# Altium integrated library Maxim Universal Active Filter.IntLib: 24 symbols
Pins are listed as number, name and electrical type; pins without a type are passive.

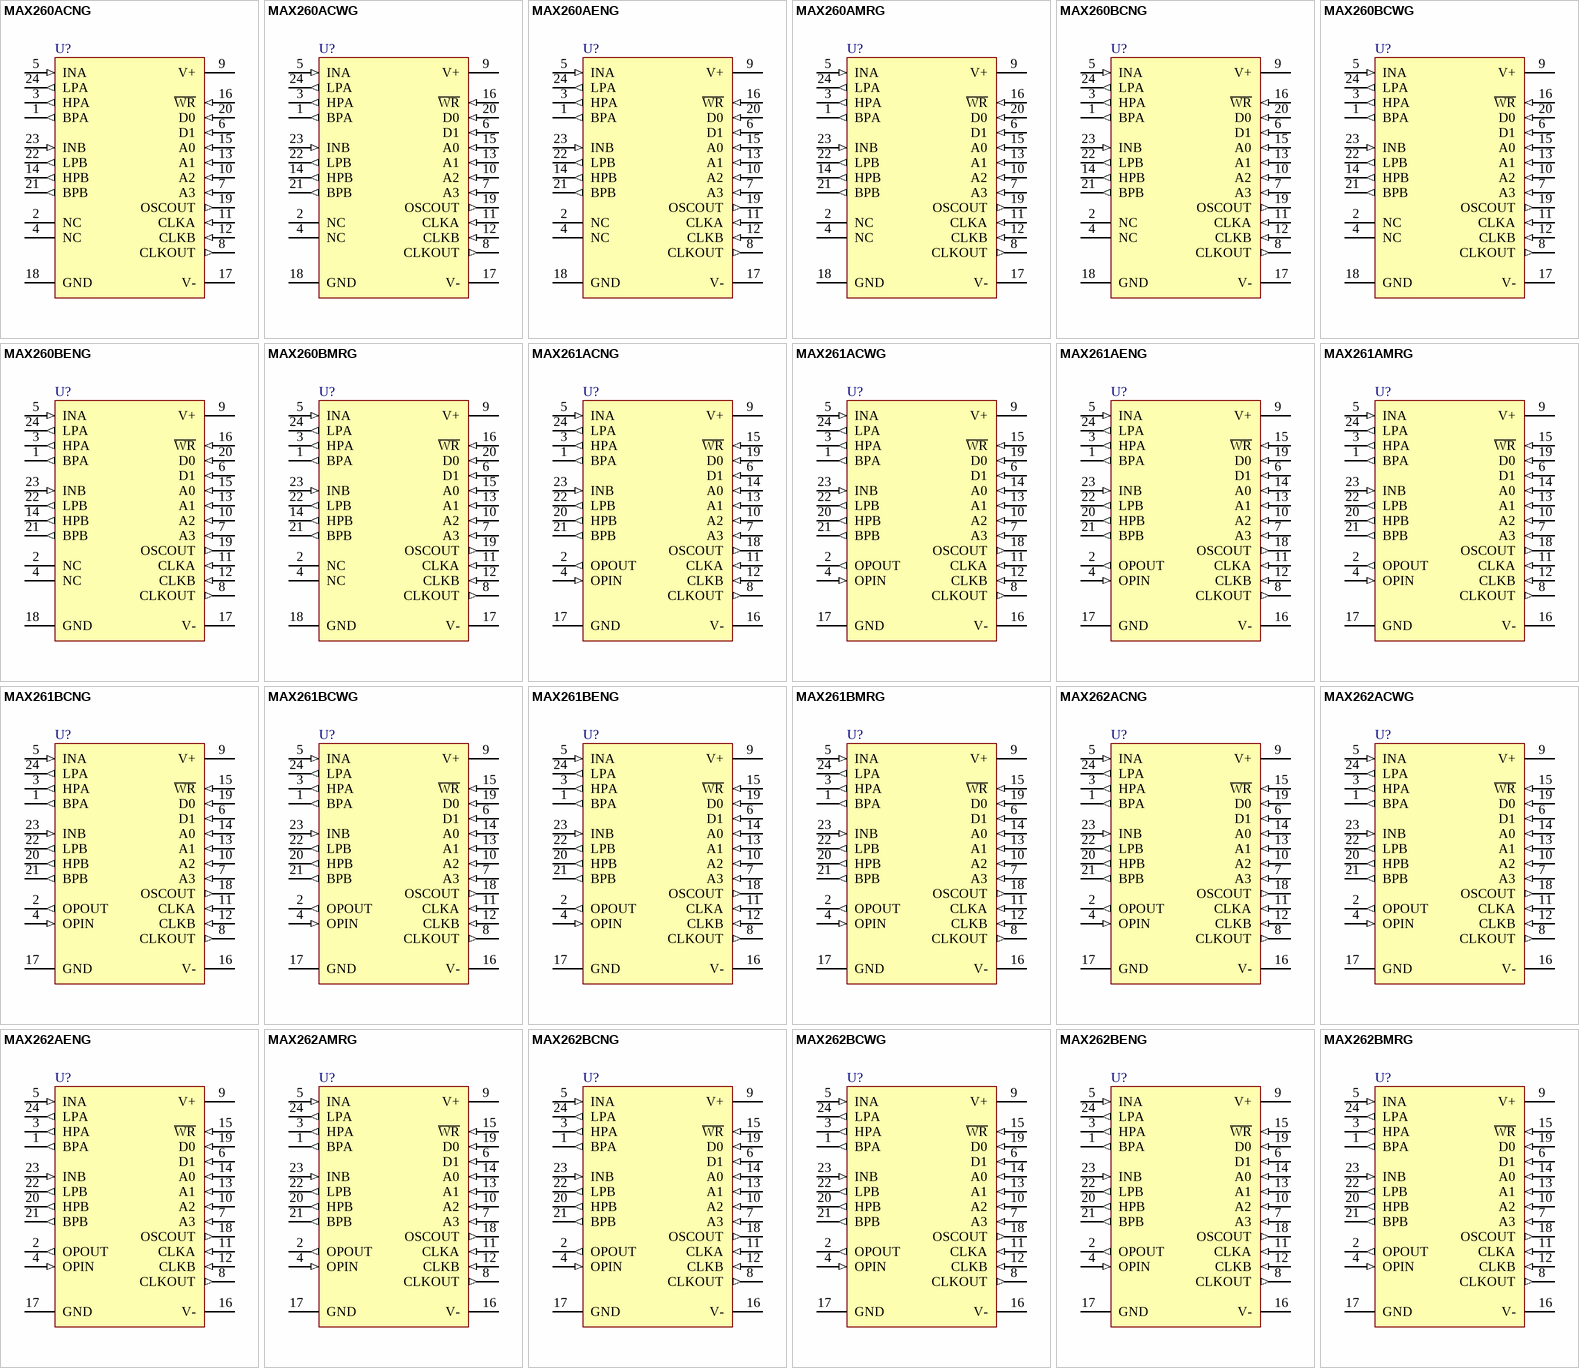
[diagram p0: symbols MAX260ACNG to MAX262BMRG]

## MAX260ACNG
designator U?
Microprocessor Programmable Universal Active Filter; Published: 16-Jan-2001; LatestRevisionDate: 29-May-2009; LatestRevisionNote: Component Body Added.; PackageVersion: Aug-2000; PackageReference: NG24; Publisher: Altium Limited; PackageDescription: DIP, 24-Pin, Row Spacing 7.62 mm, Pitch 2.54 mm; Code_JEDEC: MS-001-AF; ComponentLink1Description: Manufacturer Link; ComponentLink1URL: http://www.maxim-ic.com/; ComponentLink2Description: Datasheet; ComponentLink2URL: http://pdfserv.maxim-ic.com/en/ds/MAX260-MAX262.pdf
footprint NG24 (DIP, 24-Leads, Row Spacing 7.62mm, Pitch 2.54mm, Body 30.55x7.24mm)
3D model NG24 (DIP, 24-Pin, Row Spacing 7.62 mm, Pitch 2.54 mm)
pins: 1 BPA (out), 2 NC, 3 HPA (out), 4 NC, 5 INA (in), 6 D1 (in), 7 A3 (in), 8 CLKOUT (out), 9 V+ (power), 10 A2 (in), 11 CLKA (in), 12 CLKB (in), 13 A1 (in), 14 HPB (out), 15 A0 (in), 16 ~{WR} (in), 17 V- (power), 18 GND (power), 19 OSCOUT (out), 20 D0 (in), 21 BPB (out), 22 LPB (out), 23 INB (in), 24 LPA (out)

## MAX260ACWG
designator U?
Microprocessor Programmable Universal Active Filter; Published: 16-Jan-2001; LatestRevisionDate: 13-Apr-2006; LatestRevisionNote: IPC-7351 Footprint Added.; PackageReference: WSO24; Publisher: Altium Limited; PackageDescription: 24-Pin Small Outline Integrated Circuit 1.27 mm Pitch; ComponentLink1Description: Manufacturer Link; ComponentLink1URL: http://www.maxim-ic.com/; ComponentLink2Description: Datasheet; ComponentLink2URL: http://pdfserv.maxim-ic.com/en/ds/MAX260-MAX262.pdf
footprint WSO24_N (SOIC, 24-Leads, Body 15.4x7.5mm, Pitch 1.27mm, IPC Medium Density)
footprint WSO24_L (SOIC, 24-Leads, Body 15.4x7.5mm, Pitch 1.27mm, IPC High Density)
footprint WSO24_M (SOIC, 24-Leads, Body 15.4x7.5mm, Pitch 1.27mm, IPC Low Density)
3D model WSO24 (24-Pin Small Outline Integrated Circuit 1.27 mm Pitch)
pins: 1 BPA (out), 2 NC, 3 HPA (out), 4 NC, 5 INA (in), 6 D1 (in), 7 A3 (in), 8 CLKOUT (out), 9 V+ (power), 10 A2 (in), 11 CLKA (in), 12 CLKB (in), 13 A1 (in), 14 HPB (out), 15 A0 (in), 16 ~{WR} (in), 17 V- (power), 18 GND (power), 19 OSCOUT (out), 20 D0 (in), 21 BPB (out), 22 LPB (out), 23 INB (in), 24 LPA (out)

## MAX260AENG
designator U?
Microprocessor Programmable Universal Active Filter; Published: 16-Jan-2001; LatestRevisionDate: 29-May-2009; LatestRevisionNote: Component Body Added.; PackageVersion: Aug-2000; PackageReference: NG24; Publisher: Altium Limited; PackageDescription: DIP, 24-Pin, Row Spacing 7.62 mm, Pitch 2.54 mm; Code_JEDEC: MS-001-AF; ComponentLink1Description: Manufacturer Link; ComponentLink1URL: http://www.maxim-ic.com/; ComponentLink2Description: Datasheet; ComponentLink2URL: http://pdfserv.maxim-ic.com/en/ds/MAX260-MAX262.pdf
footprint NG24 (DIP, 24-Leads, Row Spacing 7.62mm, Pitch 2.54mm, Body 30.55x7.24mm)
3D model NG24 (DIP, 24-Pin, Row Spacing 7.62 mm, Pitch 2.54 mm)
pins: 1 BPA (out), 2 NC, 3 HPA (out), 4 NC, 5 INA (in), 6 D1 (in), 7 A3 (in), 8 CLKOUT (out), 9 V+ (power), 10 A2 (in), 11 CLKA (in), 12 CLKB (in), 13 A1 (in), 14 HPB (out), 15 A0 (in), 16 ~{WR} (in), 17 V- (power), 18 GND (power), 19 OSCOUT (out), 20 D0 (in), 21 BPB (out), 22 LPB (out), 23 INB (in), 24 LPA (out)

## MAX260AMRG
designator U?
Microprocessor Programmable Universal Active Filter; Published: 16-Jan-2001; LatestRevisionDate: 29-May-2009; LatestRevisionNote: Component Body Added.; PackageVersion: 1996; PackageReference: RG24; Publisher: Altium Limited; PackageDescription: DIP, 24-Pin, Row Spacing 7.62 mm, Pitch 2.54 mm; Code_JEDEC: MS-001-AF; ComponentLink1Description: Manufacturer Link; ComponentLink1URL: http://www.maxim-ic.com/; ComponentLink2Description: Datasheet; ComponentLink2URL: http://pdfserv.maxim-ic.com/en/ds/MAX260-MAX262.pdf
footprint RG24 (DIP, 24-Leads, Row Spacing 7.62mm, Pitch 2.54mm, Body 31.88x6.73mm)
3D model NG24 (DIP, 24-Pin, Row Spacing 7.62 mm, Pitch 2.54 mm)
pins: 1 BPA (out), 2 NC, 3 HPA (out), 4 NC, 5 INA (in), 6 D1 (in), 7 A3 (in), 8 CLKOUT (out), 9 V+ (power), 10 A2 (in), 11 CLKA (in), 12 CLKB (in), 13 A1 (in), 14 HPB (out), 15 A0 (in), 16 ~{WR} (in), 17 V- (power), 18 GND (power), 19 OSCOUT (out), 20 D0 (in), 21 BPB (out), 22 LPB (out), 23 INB (in), 24 LPA (out)

## MAX260BCNG
designator U?
Microprocessor Programmable Universal Active Filter; Published: 16-Jan-2001; LatestRevisionDate: 29-May-2009; LatestRevisionNote: Component Body Added.; PackageVersion: Aug-2000; PackageReference: NG24; Publisher: Altium Limited; PackageDescription: DIP, 24-Pin, Row Spacing 7.62 mm, Pitch 2.54 mm; Code_JEDEC: MS-001-AF; ComponentLink1Description: Manufacturer Link; ComponentLink1URL: http://www.maxim-ic.com/; ComponentLink2Description: Datasheet; ComponentLink2URL: http://pdfserv.maxim-ic.com/en/ds/MAX260-MAX262.pdf
footprint NG24 (DIP, 24-Leads, Row Spacing 7.62mm, Pitch 2.54mm, Body 30.55x7.24mm)
3D model NG24 (DIP, 24-Pin, Row Spacing 7.62 mm, Pitch 2.54 mm)
pins: 1 BPA (out), 2 NC, 3 HPA (out), 4 NC, 5 INA (in), 6 D1 (in), 7 A3 (in), 8 CLKOUT (out), 9 V+ (power), 10 A2 (in), 11 CLKA (in), 12 CLKB (in), 13 A1 (in), 14 HPB (out), 15 A0 (in), 16 ~{WR} (in), 17 V- (power), 18 GND (power), 19 OSCOUT (out), 20 D0 (in), 21 BPB (out), 22 LPB (out), 23 INB (in), 24 LPA (out)

## MAX260BCWG
designator U?
Microprocessor Programmable Universal Active Filter; Published: 16-Jan-2001; LatestRevisionDate: 13-Apr-2006; LatestRevisionNote: IPC-7351 Footprint Added.; PackageReference: WSO24; Publisher: Altium Limited; PackageDescription: 24-Pin Small Outline Integrated Circuit 1.27 mm Pitch; ComponentLink1Description: Manufacturer Link; ComponentLink1URL: http://www.maxim-ic.com/; ComponentLink2Description: Datasheet; ComponentLink2URL: http://pdfserv.maxim-ic.com/en/ds/MAX260-MAX262.pdf
footprint WSO24_N (SOIC, 24-Leads, Body 15.4x7.5mm, Pitch 1.27mm, IPC Medium Density)
footprint WSO24_L (SOIC, 24-Leads, Body 15.4x7.5mm, Pitch 1.27mm, IPC High Density)
footprint WSO24_M (SOIC, 24-Leads, Body 15.4x7.5mm, Pitch 1.27mm, IPC Low Density)
3D model WSO24 (24-Pin Small Outline Integrated Circuit 1.27 mm Pitch)
pins: 1 BPA (out), 2 NC, 3 HPA (out), 4 NC, 5 INA (in), 6 D1 (in), 7 A3 (in), 8 CLKOUT (out), 9 V+ (power), 10 A2 (in), 11 CLKA (in), 12 CLKB (in), 13 A1 (in), 14 HPB (out), 15 A0 (in), 16 ~{WR} (in), 17 V- (power), 18 GND (power), 19 OSCOUT (out), 20 D0 (in), 21 BPB (out), 22 LPB (out), 23 INB (in), 24 LPA (out)

## MAX260BENG
designator U?
Microprocessor Programmable Universal Active Filter; Published: 16-Jan-2001; LatestRevisionDate: 29-May-2009; LatestRevisionNote: Component Body Added.; PackageVersion: Aug-2000; PackageReference: NG24; Publisher: Altium Limited; PackageDescription: DIP, 24-Pin, Row Spacing 7.62 mm, Pitch 2.54 mm; Code_JEDEC: MS-001-AF; ComponentLink1Description: Manufacturer Link; ComponentLink1URL: http://www.maxim-ic.com/; ComponentLink2Description: Datasheet; ComponentLink2URL: http://pdfserv.maxim-ic.com/en/ds/MAX260-MAX262.pdf
footprint NG24 (DIP, 24-Leads, Row Spacing 7.62mm, Pitch 2.54mm, Body 30.55x7.24mm)
3D model NG24 (DIP, 24-Pin, Row Spacing 7.62 mm, Pitch 2.54 mm)
pins: 1 BPA (out), 2 NC, 3 HPA (out), 4 NC, 5 INA (in), 6 D1 (in), 7 A3 (in), 8 CLKOUT (out), 9 V+ (power), 10 A2 (in), 11 CLKA (in), 12 CLKB (in), 13 A1 (in), 14 HPB (out), 15 A0 (in), 16 ~{WR} (in), 17 V- (power), 18 GND (power), 19 OSCOUT (out), 20 D0 (in), 21 BPB (out), 22 LPB (out), 23 INB (in), 24 LPA (out)

## MAX260BMRG
designator U?
Microprocessor Programmable Universal Active Filter; Published: 16-Jan-2001; LatestRevisionDate: 29-May-2009; LatestRevisionNote: Component Body Added.; PackageVersion: 1996; PackageReference: RG24; Publisher: Altium Limited; PackageDescription: DIP, 24-Pin, Row Spacing 7.62 mm, Pitch 2.54 mm; Code_JEDEC: MS-001-AF; ComponentLink1Description: Manufacturer Link; ComponentLink1URL: http://www.maxim-ic.com/; ComponentLink2Description: Datasheet; ComponentLink2URL: http://pdfserv.maxim-ic.com/en/ds/MAX260-MAX262.pdf
footprint RG24 (DIP, 24-Leads, Row Spacing 7.62mm, Pitch 2.54mm, Body 31.88x6.73mm)
3D model NG24 (DIP, 24-Pin, Row Spacing 7.62 mm, Pitch 2.54 mm)
pins: 1 BPA (out), 2 NC, 3 HPA (out), 4 NC, 5 INA (in), 6 D1 (in), 7 A3 (in), 8 CLKOUT (out), 9 V+ (power), 10 A2 (in), 11 CLKA (in), 12 CLKB (in), 13 A1 (in), 14 HPB (out), 15 A0 (in), 16 ~{WR} (in), 17 V- (power), 18 GND (power), 19 OSCOUT (out), 20 D0 (in), 21 BPB (out), 22 LPB (out), 23 INB (in), 24 LPA (out)

## MAX261ACNG
designator U?
Microprocessor Programmable Universal Active Filter; Published: 16-Jan-2001; LatestRevisionDate: 29-May-2009; LatestRevisionNote: Component Body Added.; PackageVersion: Aug-2000; PackageReference: NG24; Publisher: Altium Limited; PackageDescription: DIP, 24-Pin, Row Spacing 7.62 mm, Pitch 2.54 mm; Code_JEDEC: MS-001-AF; ComponentLink1Description: Manufacturer Link; ComponentLink1URL: http://www.maxim-ic.com/; ComponentLink2Description: Datasheet; ComponentLink2URL: http://pdfserv.maxim-ic.com/en/ds/MAX260-MAX262.pdf
footprint NG24 (DIP, 24-Leads, Row Spacing 7.62mm, Pitch 2.54mm, Body 30.55x7.24mm)
3D model NG24 (DIP, 24-Pin, Row Spacing 7.62 mm, Pitch 2.54 mm)
pins: 1 BPA (out), 2 OPOUT (out), 3 HPA (out), 4 OPIN (in), 5 INA (in), 6 D1 (in), 7 A3 (in), 8 CLKOUT (out), 9 V+ (power), 10 A2 (in), 11 CLKA (in), 12 CLKB (in), 13 A1 (in), 14 A0 (in), 15 ~{WR} (in), 16 V- (power), 17 GND (power), 18 OSCOUT (out), 19 D0 (in), 20 HPB (out), 21 BPB (out), 22 LPB (out), 23 INB (in), 24 LPA (out)

## MAX261ACWG
designator U?
Microprocessor Programmable Universal Active Filter; Published: 16-Jan-2001; LatestRevisionDate: 13-Apr-2006; LatestRevisionNote: IPC-7351 Footprint Added.; PackageReference: WSO24; Publisher: Altium Limited; PackageDescription: 24-Pin Small Outline Integrated Circuit 1.27 mm Pitch; ComponentLink1Description: Manufacturer Link; ComponentLink1URL: http://www.maxim-ic.com/; ComponentLink2Description: Datasheet; ComponentLink2URL: http://pdfserv.maxim-ic.com/en/ds/MAX260-MAX262.pdf
footprint WSO24_N (SOIC, 24-Leads, Body 15.4x7.5mm, Pitch 1.27mm, IPC Medium Density)
footprint WSO24_L (SOIC, 24-Leads, Body 15.4x7.5mm, Pitch 1.27mm, IPC High Density)
footprint WSO24_M (SOIC, 24-Leads, Body 15.4x7.5mm, Pitch 1.27mm, IPC Low Density)
3D model WSO24 (24-Pin Small Outline Integrated Circuit 1.27 mm Pitch)
pins: 1 BPA (out), 2 OPOUT (out), 3 HPA (out), 4 OPIN (in), 5 INA (in), 6 D1 (in), 7 A3 (in), 8 CLKOUT (out), 9 V+ (power), 10 A2 (in), 11 CLKA (in), 12 CLKB (in), 13 A1 (in), 14 A0 (in), 15 ~{WR} (in), 16 V- (power), 17 GND (power), 18 OSCOUT (out), 19 D0 (in), 20 HPB (out), 21 BPB (out), 22 LPB (out), 23 INB (in), 24 LPA (out)

## MAX261AENG
designator U?
Microprocessor Programmable Universal Active Filter; Published: 16-Jan-2001; LatestRevisionDate: 29-May-2009; LatestRevisionNote: Component Body Added.; PackageVersion: Aug-2000; PackageReference: NG24; Publisher: Altium Limited; PackageDescription: DIP, 24-Pin, Row Spacing 7.62 mm, Pitch 2.54 mm; Code_JEDEC: MS-001-AF; ComponentLink1Description: Manufacturer Link; ComponentLink1URL: http://www.maxim-ic.com/; ComponentLink2Description: Datasheet; ComponentLink2URL: http://pdfserv.maxim-ic.com/en/ds/MAX260-MAX262.pdf
footprint NG24 (DIP, 24-Leads, Row Spacing 7.62mm, Pitch 2.54mm, Body 30.55x7.24mm)
3D model NG24 (DIP, 24-Pin, Row Spacing 7.62 mm, Pitch 2.54 mm)
pins: 1 BPA (out), 2 OPOUT (out), 3 HPA (out), 4 OPIN (in), 5 INA (in), 6 D1 (in), 7 A3 (in), 8 CLKOUT (out), 9 V+ (power), 10 A2 (in), 11 CLKA (in), 12 CLKB (in), 13 A1 (in), 14 A0 (in), 15 ~{WR} (in), 16 V- (power), 17 GND (power), 18 OSCOUT (out), 19 D0 (in), 20 HPB (out), 21 BPB (out), 22 LPB (out), 23 INB (in), 24 LPA (out)

## MAX261AMRG
designator U?
Microprocessor Programmable Universal Active Filter; Published: 16-Jan-2001; LatestRevisionDate: 29-May-2009; LatestRevisionNote: Component Body Added.; PackageVersion: 1996; PackageReference: RG24; Publisher: Altium Limited; PackageDescription: DIP, 24-Pin, Row Spacing 7.62 mm, Pitch 2.54 mm; Code_JEDEC: MS-001-AF; ComponentLink1Description: Manufacturer Link; ComponentLink1URL: http://www.maxim-ic.com/; ComponentLink2Description: Datasheet; ComponentLink2URL: http://pdfserv.maxim-ic.com/en/ds/MAX260-MAX262.pdf
footprint RG24 (DIP, 24-Leads, Row Spacing 7.62mm, Pitch 2.54mm, Body 31.88x6.73mm)
3D model NG24 (DIP, 24-Pin, Row Spacing 7.62 mm, Pitch 2.54 mm)
pins: 1 BPA (out), 2 OPOUT (out), 3 HPA (out), 4 OPIN (in), 5 INA (in), 6 D1 (in), 7 A3 (in), 8 CLKOUT (out), 9 V+ (power), 10 A2 (in), 11 CLKA (in), 12 CLKB (in), 13 A1 (in), 14 A0 (in), 15 ~{WR} (in), 16 V- (power), 17 GND (power), 18 OSCOUT (out), 19 D0 (in), 20 HPB (out), 21 BPB (out), 22 LPB (out), 23 INB (in), 24 LPA (out)

## MAX261BCNG
designator U?
Microprocessor Programmable Universal Active Filter; Published: 16-Jan-2001; LatestRevisionDate: 29-May-2009; LatestRevisionNote: Component Body Added.; PackageVersion: Aug-2000; PackageReference: NG24; Publisher: Altium Limited; PackageDescription: DIP, 24-Pin, Row Spacing 7.62 mm, Pitch 2.54 mm; Code_JEDEC: MS-001-AF; ComponentLink1Description: Manufacturer Link; ComponentLink1URL: http://www.maxim-ic.com/; ComponentLink2Description: Datasheet; ComponentLink2URL: http://pdfserv.maxim-ic.com/en/ds/MAX260-MAX262.pdf
footprint NG24 (DIP, 24-Leads, Row Spacing 7.62mm, Pitch 2.54mm, Body 30.55x7.24mm)
3D model NG24 (DIP, 24-Pin, Row Spacing 7.62 mm, Pitch 2.54 mm)
pins: 1 BPA (out), 2 OPOUT (out), 3 HPA (out), 4 OPIN (in), 5 INA (in), 6 D1 (in), 7 A3 (in), 8 CLKOUT (out), 9 V+ (power), 10 A2 (in), 11 CLKA (in), 12 CLKB (in), 13 A1 (in), 14 A0 (in), 15 ~{WR} (in), 16 V- (power), 17 GND (power), 18 OSCOUT (out), 19 D0 (in), 20 HPB (out), 21 BPB (out), 22 LPB (out), 23 INB (in), 24 LPA (out)

## MAX261BCWG
designator U?
Microprocessor Programmable Universal Active Filter; Published: 16-Jan-2001; LatestRevisionDate: 13-Apr-2006; LatestRevisionNote: IPC-7351 Footprint Added.; PackageReference: WSO24; Publisher: Altium Limited; PackageDescription: 24-Pin Small Outline Integrated Circuit 1.27 mm Pitch; ComponentLink1Description: Manufacturer Link; ComponentLink1URL: http://www.maxim-ic.com/; ComponentLink2Description: Datasheet; ComponentLink2URL: http://pdfserv.maxim-ic.com/en/ds/MAX260-MAX262.pdf
footprint WSO24_N (SOIC, 24-Leads, Body 15.4x7.5mm, Pitch 1.27mm, IPC Medium Density)
footprint WSO24_L (SOIC, 24-Leads, Body 15.4x7.5mm, Pitch 1.27mm, IPC High Density)
footprint WSO24_M (SOIC, 24-Leads, Body 15.4x7.5mm, Pitch 1.27mm, IPC Low Density)
3D model WSO24 (24-Pin Small Outline Integrated Circuit 1.27 mm Pitch)
pins: 1 BPA (out), 2 OPOUT (out), 3 HPA (out), 4 OPIN (in), 5 INA (in), 6 D1 (in), 7 A3 (in), 8 CLKOUT (out), 9 V+ (power), 10 A2 (in), 11 CLKA (in), 12 CLKB (in), 13 A1 (in), 14 A0 (in), 15 ~{WR} (in), 16 V- (power), 17 GND (power), 18 OSCOUT (out), 19 D0 (in), 20 HPB (out), 21 BPB (out), 22 LPB (out), 23 INB (in), 24 LPA (out)

## MAX261BENG
designator U?
Microprocessor Programmable Universal Active Filter; Published: 16-Jan-2001; LatestRevisionDate: 29-May-2009; LatestRevisionNote: Component Body Added.; PackageVersion: Aug-2000; PackageReference: NG24; Publisher: Altium Limited; PackageDescription: DIP, 24-Pin, Row Spacing 7.62 mm, Pitch 2.54 mm; Code_JEDEC: MS-001-AF; ComponentLink1Description: Manufacturer Link; ComponentLink1URL: http://www.maxim-ic.com/; ComponentLink2Description: Datasheet; ComponentLink2URL: http://pdfserv.maxim-ic.com/en/ds/MAX260-MAX262.pdf
footprint NG24 (DIP, 24-Leads, Row Spacing 7.62mm, Pitch 2.54mm, Body 30.55x7.24mm)
3D model NG24 (DIP, 24-Pin, Row Spacing 7.62 mm, Pitch 2.54 mm)
pins: 1 BPA (out), 2 OPOUT (out), 3 HPA (out), 4 OPIN (in), 5 INA (in), 6 D1 (in), 7 A3 (in), 8 CLKOUT (out), 9 V+ (power), 10 A2 (in), 11 CLKA (in), 12 CLKB (in), 13 A1 (in), 14 A0 (in), 15 ~{WR} (in), 16 V- (power), 17 GND (power), 18 OSCOUT (out), 19 D0 (in), 20 HPB (out), 21 BPB (out), 22 LPB (out), 23 INB (in), 24 LPA (out)

## MAX261BMRG
designator U?
Microprocessor Programmable Universal Active Filter; Published: 16-Jan-2001; LatestRevisionDate: 29-May-2009; LatestRevisionNote: Component Body Added.; PackageVersion: 1996; PackageReference: RG24; Publisher: Altium Limited; PackageDescription: DIP, 24-Pin, Row Spacing 7.62 mm, Pitch 2.54 mm; Code_JEDEC: MS-001-AF; ComponentLink1Description: Manufacturer Link; ComponentLink1URL: http://www.maxim-ic.com/; ComponentLink2Description: Datasheet; ComponentLink2URL: http://pdfserv.maxim-ic.com/en/ds/MAX260-MAX262.pdf
footprint RG24 (DIP, 24-Leads, Row Spacing 7.62mm, Pitch 2.54mm, Body 31.88x6.73mm)
3D model NG24 (DIP, 24-Pin, Row Spacing 7.62 mm, Pitch 2.54 mm)
pins: 1 BPA (out), 2 OPOUT (out), 3 HPA (out), 4 OPIN (in), 5 INA (in), 6 D1 (in), 7 A3 (in), 8 CLKOUT (out), 9 V+ (power), 10 A2 (in), 11 CLKA (in), 12 CLKB (in), 13 A1 (in), 14 A0 (in), 15 ~{WR} (in), 16 V- (power), 17 GND (power), 18 OSCOUT (out), 19 D0 (in), 20 HPB (out), 21 BPB (out), 22 LPB (out), 23 INB (in), 24 LPA (out)

## MAX262ACNG
designator U?
Microprocessor Programmable Universal Active Filter; Published: 16-Jan-2001; LatestRevisionDate: 29-May-2009; LatestRevisionNote: Component Body Added.; PackageVersion: Aug-2000; PackageReference: NG24; Publisher: Altium Limited; PackageDescription: DIP, 24-Pin, Row Spacing 7.62 mm, Pitch 2.54 mm; Code_JEDEC: MS-001-AF; ComponentLink1Description: Manufacturer Link; ComponentLink1URL: http://www.maxim-ic.com/; ComponentLink2Description: Datasheet; ComponentLink2URL: http://pdfserv.maxim-ic.com/en/ds/MAX260-MAX262.pdf
footprint NG24 (DIP, 24-Leads, Row Spacing 7.62mm, Pitch 2.54mm, Body 30.55x7.24mm)
3D model NG24 (DIP, 24-Pin, Row Spacing 7.62 mm, Pitch 2.54 mm)
pins: 1 BPA (out), 2 OPOUT (out), 3 HPA (out), 4 OPIN (in), 5 INA (in), 6 D1 (in), 7 A3 (in), 8 CLKOUT (out), 9 V+ (power), 10 A2 (in), 11 CLKA (in), 12 CLKB (in), 13 A1 (in), 14 A0 (in), 15 ~{WR} (in), 16 V- (power), 17 GND (power), 18 OSCOUT (out), 19 D0 (in), 20 HPB (out), 21 BPB (out), 22 LPB (out), 23 INB (in), 24 LPA (out)

## MAX262ACWG
designator U?
Microprocessor Programmable Universal Active Filter; Published: 16-Jan-2001; LatestRevisionDate: 13-Apr-2006; LatestRevisionNote: IPC-7351 Footprint Added.; PackageReference: WSO24; Publisher: Altium Limited; PackageDescription: 24-Pin Small Outline Integrated Circuit 1.27 mm Pitch; ComponentLink1Description: Manufacturer Link; ComponentLink1URL: http://www.maxim-ic.com/; ComponentLink2Description: Datasheet; ComponentLink2URL: http://pdfserv.maxim-ic.com/en/ds/MAX260-MAX262.pdf
footprint WSO24_N (SOIC, 24-Leads, Body 15.4x7.5mm, Pitch 1.27mm, IPC Medium Density)
footprint WSO24_L (SOIC, 24-Leads, Body 15.4x7.5mm, Pitch 1.27mm, IPC High Density)
footprint WSO24_M (SOIC, 24-Leads, Body 15.4x7.5mm, Pitch 1.27mm, IPC Low Density)
3D model WSO24 (24-Pin Small Outline Integrated Circuit 1.27 mm Pitch)
pins: 1 BPA (out), 2 OPOUT (out), 3 HPA (out), 4 OPIN (in), 5 INA (in), 6 D1 (in), 7 A3 (in), 8 CLKOUT (out), 9 V+ (power), 10 A2 (in), 11 CLKA (in), 12 CLKB (in), 13 A1 (in), 14 A0 (in), 15 ~{WR} (in), 16 V- (power), 17 GND (power), 18 OSCOUT (out), 19 D0 (in), 20 HPB (out), 21 BPB (out), 22 LPB (out), 23 INB (in), 24 LPA (out)

## MAX262AENG
designator U?
Microprocessor Programmable Universal Active Filter; Published: 16-Jan-2001; LatestRevisionDate: 29-May-2009; LatestRevisionNote: Component Body Added.; PackageVersion: Aug-2000; PackageReference: NG24; Publisher: Altium Limited; PackageDescription: DIP, 24-Pin, Row Spacing 7.62 mm, Pitch 2.54 mm; Code_JEDEC: MS-001-AF; ComponentLink1Description: Manufacturer Link; ComponentLink1URL: http://www.maxim-ic.com/; ComponentLink2Description: Datasheet; ComponentLink2URL: http://pdfserv.maxim-ic.com/en/ds/MAX260-MAX262.pdf
footprint NG24 (DIP, 24-Leads, Row Spacing 7.62mm, Pitch 2.54mm, Body 30.55x7.24mm)
3D model NG24 (DIP, 24-Pin, Row Spacing 7.62 mm, Pitch 2.54 mm)
pins: 1 BPA (out), 2 OPOUT (out), 3 HPA (out), 4 OPIN (in), 5 INA (in), 6 D1 (in), 7 A3 (in), 8 CLKOUT (out), 9 V+ (power), 10 A2 (in), 11 CLKA (in), 12 CLKB (in), 13 A1 (in), 14 A0 (in), 15 ~{WR} (in), 16 V- (power), 17 GND (power), 18 OSCOUT (out), 19 D0 (in), 20 HPB (out), 21 BPB (out), 22 LPB (out), 23 INB (in), 24 LPA (out)

## MAX262AMRG
designator U?
Microprocessor Programmable Universal Active Filter; Published: 16-Jan-2001; LatestRevisionDate: 29-May-2009; LatestRevisionNote: Component Body Added.; PackageVersion: 1996; PackageReference: RG24; Publisher: Altium Limited; PackageDescription: DIP, 24-Pin, Row Spacing 7.62 mm, Pitch 2.54 mm; Code_JEDEC: MS-001-AF; ComponentLink1Description: Manufacturer Link; ComponentLink1URL: http://www.maxim-ic.com/; ComponentLink2Description: Datasheet; ComponentLink2URL: http://pdfserv.maxim-ic.com/en/ds/MAX260-MAX262.pdf
footprint RG24 (DIP, 24-Leads, Row Spacing 7.62mm, Pitch 2.54mm, Body 31.88x6.73mm)
3D model NG24 (DIP, 24-Pin, Row Spacing 7.62 mm, Pitch 2.54 mm)
pins: 1 BPA (out), 2 OPOUT (out), 3 HPA (out), 4 OPIN (in), 5 INA (in), 6 D1 (in), 7 A3 (in), 8 CLKOUT (out), 9 V+ (power), 10 A2 (in), 11 CLKA (in), 12 CLKB (in), 13 A1 (in), 14 A0 (in), 15 ~{WR} (in), 16 V- (power), 17 GND (power), 18 OSCOUT (out), 19 D0 (in), 20 HPB (out), 21 BPB (out), 22 LPB (out), 23 INB (in), 24 LPA (out)

## MAX262BCNG
designator U?
Microprocessor Programmable Universal Active Filter; Published: 16-Jan-2001; LatestRevisionDate: 29-May-2009; LatestRevisionNote: Component Body Added.; PackageVersion: Aug-2000; PackageReference: NG24; Publisher: Altium Limited; PackageDescription: DIP, 24-Pin, Row Spacing 7.62 mm, Pitch 2.54 mm; Code_JEDEC: MS-001-AF; ComponentLink1Description: Manufacturer Link; ComponentLink1URL: http://www.maxim-ic.com/; ComponentLink2Description: Datasheet; ComponentLink2URL: http://pdfserv.maxim-ic.com/en/ds/MAX260-MAX262.pdf
footprint NG24 (DIP, 24-Leads, Row Spacing 7.62mm, Pitch 2.54mm, Body 30.55x7.24mm)
3D model NG24 (DIP, 24-Pin, Row Spacing 7.62 mm, Pitch 2.54 mm)
pins: 1 BPA (out), 2 OPOUT (out), 3 HPA (out), 4 OPIN (in), 5 INA (in), 6 D1 (in), 7 A3 (in), 8 CLKOUT (out), 9 V+ (power), 10 A2 (in), 11 CLKA (in), 12 CLKB (in), 13 A1 (in), 14 A0 (in), 15 ~{WR} (in), 16 V- (power), 17 GND (power), 18 OSCOUT (out), 19 D0 (in), 20 HPB (out), 21 BPB (out), 22 LPB (out), 23 INB (in), 24 LPA (out)

## MAX262BCWG
designator U?
Microprocessor Programmable Universal Active Filter; Published: 16-Jan-2001; LatestRevisionDate: 13-Apr-2006; LatestRevisionNote: IPC-7351 Footprint Added.; PackageReference: WSO24; Publisher: Altium Limited; PackageDescription: 24-Pin Small Outline Integrated Circuit 1.27 mm Pitch; ComponentLink1Description: Manufacturer Link; ComponentLink1URL: http://www.maxim-ic.com/; ComponentLink2Description: Datasheet; ComponentLink2URL: http://pdfserv.maxim-ic.com/en/ds/MAX260-MAX262.pdf
footprint WSO24_N (SOIC, 24-Leads, Body 15.4x7.5mm, Pitch 1.27mm, IPC Medium Density)
footprint WSO24_L (SOIC, 24-Leads, Body 15.4x7.5mm, Pitch 1.27mm, IPC High Density)
footprint WSO24_M (SOIC, 24-Leads, Body 15.4x7.5mm, Pitch 1.27mm, IPC Low Density)
3D model WSO24 (24-Pin Small Outline Integrated Circuit 1.27 mm Pitch)
pins: 1 BPA (out), 2 OPOUT (out), 3 HPA (out), 4 OPIN (in), 5 INA (in), 6 D1 (in), 7 A3 (in), 8 CLKOUT (out), 9 V+ (power), 10 A2 (in), 11 CLKA (in), 12 CLKB (in), 13 A1 (in), 14 A0 (in), 15 ~{WR} (in), 16 V- (power), 17 GND (power), 18 OSCOUT (out), 19 D0 (in), 20 HPB (out), 21 BPB (out), 22 LPB (out), 23 INB (in), 24 LPA (out)

## MAX262BENG
designator U?
Microprocessor Programmable Universal Active Filter; Published: 16-Jan-2001; LatestRevisionDate: 29-May-2009; LatestRevisionNote: Component Body Added.; PackageVersion: Aug-2000; PackageReference: NG24; Publisher: Altium Limited; PackageDescription: DIP, 24-Pin, Row Spacing 7.62 mm, Pitch 2.54 mm; Code_JEDEC: MS-001-AF; ComponentLink1Description: Manufacturer Link; ComponentLink1URL: http://www.maxim-ic.com/; ComponentLink2Description: Datasheet; ComponentLink2URL: http://pdfserv.maxim-ic.com/en/ds/MAX260-MAX262.pdf
footprint NG24 (DIP, 24-Leads, Row Spacing 7.62mm, Pitch 2.54mm, Body 30.55x7.24mm)
3D model NG24 (DIP, 24-Pin, Row Spacing 7.62 mm, Pitch 2.54 mm)
pins: 1 BPA (out), 2 OPOUT (out), 3 HPA (out), 4 OPIN (in), 5 INA (in), 6 D1 (in), 7 A3 (in), 8 CLKOUT (out), 9 V+ (power), 10 A2 (in), 11 CLKA (in), 12 CLKB (in), 13 A1 (in), 14 A0 (in), 15 ~{WR} (in), 16 V- (power), 17 GND (power), 18 OSCOUT (out), 19 D0 (in), 20 HPB (out), 21 BPB (out), 22 LPB (out), 23 INB (in), 24 LPA (out)

## MAX262BMRG
designator U?
Microprocessor Programmable Universal Active Filter; Published: 16-Jan-2001; LatestRevisionDate: 29-May-2009; LatestRevisionNote: Component Body Added.; PackageVersion: 1996; PackageReference: RG24; Publisher: Altium Limited; PackageDescription: DIP, 24-Pin, Row Spacing 7.62 mm, Pitch 2.54 mm; Code_JEDEC: MS-001-AF; ComponentLink1Description: Manufacturer Link; ComponentLink1URL: http://www.maxim-ic.com/; ComponentLink2Description: Datasheet; ComponentLink2URL: http://pdfserv.maxim-ic.com/en/ds/MAX260-MAX262.pdf
footprint RG24 (DIP, 24-Leads, Row Spacing 7.62mm, Pitch 2.54mm, Body 31.88x6.73mm)
3D model NG24 (DIP, 24-Pin, Row Spacing 7.62 mm, Pitch 2.54 mm)
pins: 1 BPA (out), 2 OPOUT (out), 3 HPA (out), 4 OPIN (in), 5 INA (in), 6 D1 (in), 7 A3 (in), 8 CLKOUT (out), 9 V+ (power), 10 A2 (in), 11 CLKA (in), 12 CLKB (in), 13 A1 (in), 14 A0 (in), 15 ~{WR} (in), 16 V- (power), 17 GND (power), 18 OSCOUT (out), 19 D0 (in), 20 HPB (out), 21 BPB (out), 22 LPB (out), 23 INB (in), 24 LPA (out)